# Altium footprint library 1815125.PcbLib: 1 footprints
Each footprint in its own frame and in the unit in brackets; x right, y up, seen from the top. Pads: shape width x height; smd on the part's side, far side on the other; paste and mask are expansions set on the pad; w line width, h text height; cw(c..) or ccw(c..) is an arc to the next point about the centre after c.
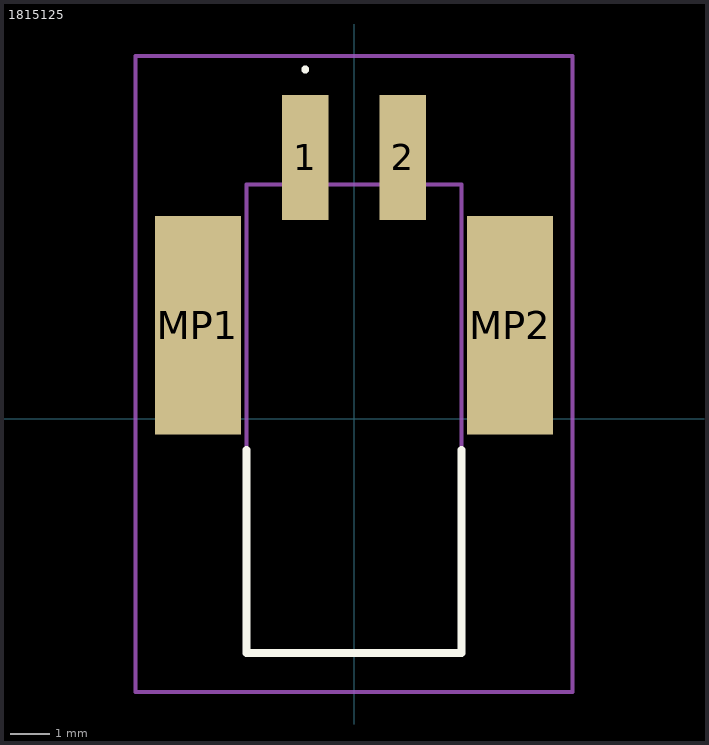
[diagram p0: the footprint, top view; thin cyan lines are the x and y axes]

## 1815125 [mm]
pads (4):
  rect 1.2x3.2 smd: 1(-1.25,6.7) 2(1.25,6.7)
  rect 2.2x5.6 smd: MP1(-4,2.4) MP2(4,2.4)
Top Overlay:
  lines w0.1: -1.25,8.9 ccw(c-1.25,8.95) -1.25,9 ccw(c-1.25,8.95) -1.25,8.9
  lines w0.2: -2.75,-0.8 -2.75,-6 2.75,-6 2.75,-0.8
Mechanical 15:
  lines w0.1: -2.75,-6 2.75,-6 2.75,6 -2.75,6 -2.75,-6
Mechanical 20:
  lines w0.1: -5.6,-7 5.6,-7 5.6,9.3 -5.6,9.3 -5.6,-7
3D body "1815125.stp": height 5, standoff 0, extent -4.9,-6.126 4.9,7.874